# Altium footprint library STM32VET6_PCB.PcbLib: 24 footprints (part 1 of 2)
Each footprint in its own frame and in the unit in brackets; x right, y up, seen from the top. Pads: shape width x height; smd on the part's side, far side on the other; paste and mask are expansions set on the pad; w line width, h text height; cw(c..) or ccw(c..) is an arc to the next point about the centre after c.
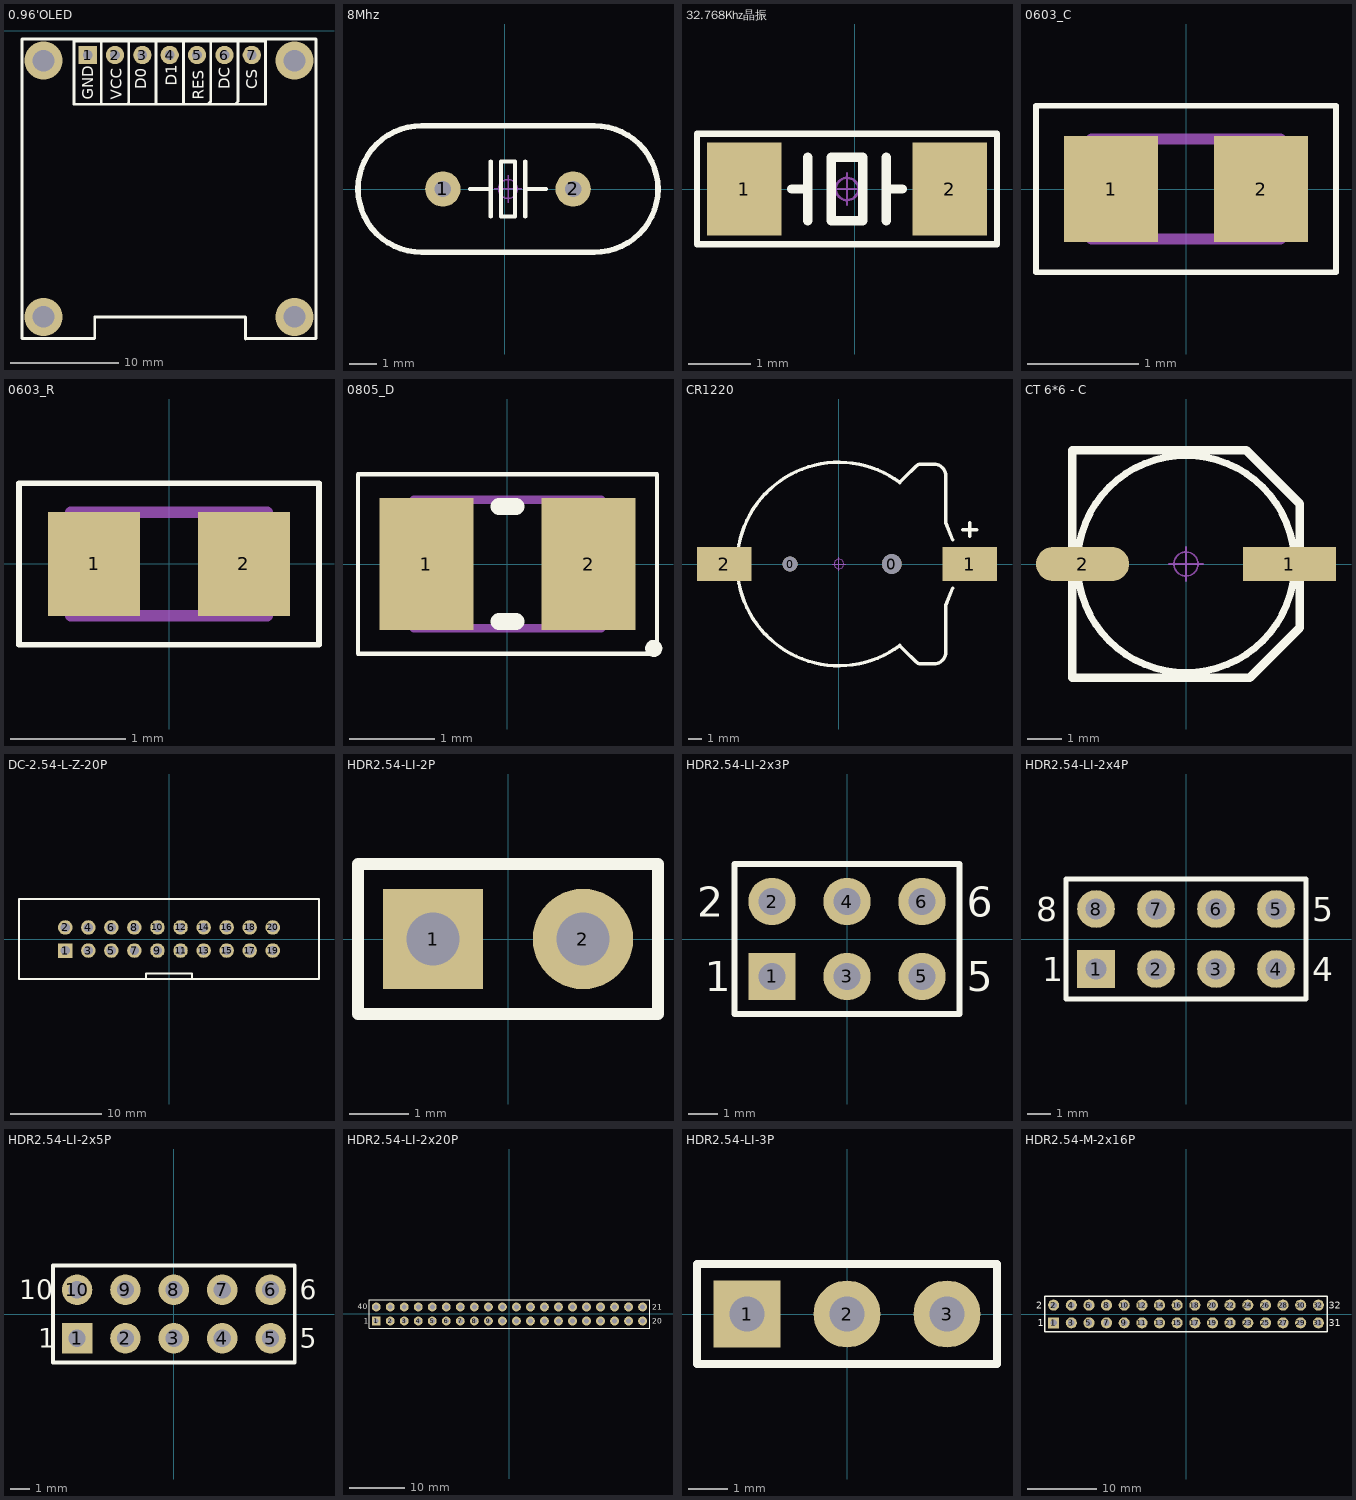
[diagram p0: the footprints below, top view; thin cyan lines are the x and y axes]

## 0.96'OLED [mm] "7脚"
pads (7):
  rect 1.7x1.7 hole 0.9: 1(21.717,-2.262)
  round 1.7 hole 0.9: 2(24.257,-2.262) 3(26.797,-2.262) 4(29.337,-2.262) 5(31.877,-2.262) 6(34.417,-2.262) 7(36.957,-2.262)
via 17.621,-26.575 diameter 3.5 hole 2
via 40.921,-26.575 diameter 3.5 hole 2
via 17.621,-2.775 diameter 3.5 hole 2
via 40.921,-2.775 diameter 3.5 hole 2
Top Overlay:
  lines w0.2: 20.447,-0.992 38.227,-0.992 38.227,-3.532
  lines w0.254: 20.447,-0.992 20.447,-6.834 22.987,-6.834 ; 22.987,-0.992 22.987,-6.834 ; 25.527,-0.992 25.527,-6.707 25.4,-6.834 ; 28.067,-0.992 28.067,-6.707 27.94,-6.834 ; 30.607,-0.992 30.607,-6.707 30.48,-6.834 ; 33.147,-0.992 33.147,-6.58 32.893,-6.834 ; 35.687,-0.992 35.687,-6.58 35.433,-6.834 ; 38.227,-0.992 38.227,-6.834 35.433,-6.834 ; 22.987,-6.834 25.4,-6.834 ; 25.4,-6.834 27.94,-6.834 ; 27.94,-6.834 30.48,-6.834 ; 30.48,-6.834 32.893,-6.834 ; 32.893,-6.834 35.433,-6.834 ; 15.621,-28.575 15.621,-0.775 42.921,-0.775 42.921,-28.575 36.42,-28.575 36.371,-28.624 36.371,-26.575 22.371,-26.575 22.371,-28.556 22.352,-28.575 15.621,-28.575
  text "CS" at 37.465,-5.437 h1
  text "DC" at 34.925,-5.437 h1
  text "D1" at 29.972,-5.104 h1
  text "RES" at 32.512,-6.437 h1
  text "D0" at 27.178,-5.437 h1
  text "VCC" at 24.892,-6.437 h1
  text "GND" at 22.225,-6.437 h1
3D body "HDR2.54-1P_M.STEP": height 8.5, standoff -3, extent 35.687,-3.532 38.227,-0.992
3D body "HDR2.54-1P_M.STEP": height 8.5, standoff -3, extent 33.147,-3.532 35.687,-0.992
3D body "HDR2.54-1P_M.STEP": height 8.5, standoff -3, extent 30.607,-3.532 33.147,-0.992
3D body "HDR2.54-1P_M.STEP": height 8.5, standoff -3, extent 28.067,-3.532 30.607,-0.992
3D body "HDR2.54-1P_M.STEP": height 8.5, standoff -3, extent 25.527,-3.532 28.067,-0.992
3D body "HDR2.54-1P_M.STEP": height 8.5, standoff -3, extent 22.987,-3.532 25.527,-0.992
3D body "HDR2.54-1P_M.STEP": height 8.5, standoff -3, extent 20.447,-3.532 22.987,-0.992
3D body "支撑柱M2X11+4.STEP": height 15, standoff 0, extent 16.021,-28.175 19.221,-24.975
3D body "支撑柱M2X11+4.STEP": height 15, standoff 0, extent 39.321,-28.175 42.521,-24.975
3D body "支撑柱M2X11+4.STEP": height 15, standoff 0, extent 39.321,-4.375 42.521,-1.175
3D body "128x64I2COLED1.STEP": height 13.47, standoff 2.63, extent 15.947,-28.591 42.647,-0.731
3D body "支撑柱M2X11+4.STEP": height 15, standoff 0, extent 16.021,-4.375 19.221,-1.175

## 8Mhz [mm] "HC-49S8MHZ20PF30PPM"
height 3.5
pads (2):
  round 1.3 hole 0.6: 1(-2.273,0) 2(2.527,0)
Top Overlay:
  lines w0.152: -1.27,0 -0.508,0 ; -0.508,-1.016 -0.508,1.016 ; 0.762,-1.016 0.762,1.016 ; 0.762,0 1.524,0 ; -0.127,-1.016 -0.127,1.016 0.381,1.016 0.381,-1.016 -0.127,-1.016
  lines w0.203: -3.048,2.325 ccw(c-3.073,0) -3.046,-2.325 3.302,-2.325 ccw(c3.327,0) 3.3,2.325 -3.048,2.325
Mechanical 15:
  circle w0.05: c0.127,0 r0.35
  lines w0.05: -0.373,0 0.627,0 ; 0.127,-0.5 0.127,0.5
3D body "OSC HC-49U.STEP": height 13.95, standoff -3.45, extent -5.398,-2.325 5.652,2.325

## 32.768Khz晶振 [mm] "3215_2脚贴片"
height 0.8
pads (2):
  rect 1.2x1.5 smd: 1(-1.777,0) 2(1.523,0)
Top Overlay:
  lines w0.1: -2.54,-0.889 2.286,-0.889 2.286,0.889 -2.54,0.889 -2.54,-0.889
  lines w0.152: -1.016,0 -0.762,0 ; -0.762,-0.508 -0.762,0.508 ; 0.508,-0.508 0.508,0.508 ; 0.508,0 0.762,0 ; -0.381,-0.508 -0.381,0.508 0.127,0.508 0.127,-0.508 -0.381,-0.508
Mechanical 15:
  circle w0.04: c-0.127,0 r0.18
  lines w0.04: -0.381,0 0.127,0 ; -0.127,-0.254 -0.127,0.254
3D body "OSC 3215-2.STEP": height 0.61, standoff -0.01, extent -1.727,-0.75 1.473,0.75

## 0603_C [mm] "Chip Capacitor, 2-Leads, Body 1.60x0.80mm, IPC Medium Density"
height 0.9
pads (2):
  rect 0.85x0.95 smd: 1(-0.675,0) 2(0.675,0)
Top Overlay:
  lines w0.05: -1.35,-0.75 -1.35,0.75 1.35,0.75 1.35,-0.75 -1.35,-0.75
Mechanical 13:
  lines w0.1: -0.85,-0.45 -0.85,0.45 0.85,0.45 0.85,-0.45 -0.85,-0.45
3D body "CAPC1608X09N.step": height 0.9, standoff 0, extent -0.85,-0.45 0.85,0.45

## 0603_R [mm] "Chip Resistor, 2-Leads, Body 1.60x0.80mm, IPC Medium Density"
height 0.9
pads (2):
  rect 0.8x0.9 smd: 1(-0.65,0) 2(0.65,0)
Top Overlay:
  lines w0.05: -1.3,-0.7 1.3,-0.7 1.3,0.7 -1.3,0.7 -1.3,-0.7
Mechanical 13:
  lines w0.1: -0.85,-0.45 0.85,-0.45 0.85,0.45 -0.85,0.45 -0.85,-0.45
3D body "RESC1608X09N.step": height 0.9, standoff 0, extent -0.85,-0.45 0.85,0.45

## 0805_D [mm] "Chip Diode, 2-Leads, Body 2.10x1.35mm, IPC Medium Density"
height 0.9
pads (2):
  rect 1.1x1.55 smd: 1(-0.95,0) 2(0.95,0)
Top Overlay:
  circle w0.1: c1.712,-0.987 r0.05
  lines w0.05: -1.75,-1.05 1.75,-1.05 1.75,1.05 -1.75,1.05 -1.75,-1.05
  lines w0.2: -0.1,-0.675 0.1,-0.675 ; -0.1,0.675 0.1,0.675
Mechanical 13:
  lines w0.1: -1.1,-0.75 1.1,-0.75 1.1,0.75 -1.1,0.75 -1.1,-0.75
3D body: height 0.9, standoff 0, extent 0.65,-0.75 1.1,0.75
3D body: height 0.9, standoff 0, extent -1.1,-0.75 -0.65,0.75
3D body: height 0.9, standoff 0, extent -0.65,-0.75 0.65,0.75

## CR1220 [mm] "纽扣电池座"
height 4.1
pads (4):
  round 1.1 hole 1.1: 0(-3.6,0)
  round 1.45 hole 1.45: 0(3.9,0)
  rect 4x2.5 smd: 1(9.652,0) 2(-8.458,0)
Top Overlay:
  lines w0.254: 4.5,-6 cw(c0,0) 4.5,6 ; 4.572,-6.096 4.826,-6.35 5.662,-7.186 ccw(c6.096,-6.753) 6.096,-7.366 7.007,-7.366 ccw(c7.007,-6.499) 7.874,-6.499 7.874,-3.048 8.382,-1.778 ; 4.572,6.096 4.826,6.35 5.662,7.186 cw(c6.096,6.753) 6.096,7.366 7.007,7.366 cw(c7.007,6.499) 7.874,6.499 7.874,3.048 8.382,1.778 ; 9.144,2.54 10.16,2.54 ; 9.652,2.032 9.652,3.048
Mechanical 15:
  circle w0.05: c0,0 r0.35
  lines w0.05: -0.5,0 0.5,0 ; 0,-0.5 0,0.5
3D body "CR1220_A.STEP": height 4.05, standoff -0.85, extent -9.416,-7.45 10.34,7.45

## CT 6*6 - C [mm] "直径6mm，高6mm"
pads (2):
  rect 2.7x1 smd: 1(3,0)
  oval 2.7x1 smd: 2(-3,0)
Top Overlay:
  circle w0.2: c0,0 r3.15
  lines w0.254: -3.3,-3.3 -3.3,3.3 1.75,3.3 3.3,1.75 3.3,-1.85 1.85,-3.3 -3.3,-3.3
Mechanical 15:
  circle w0.05: c0,0 r0.35
  lines w0.05: -0.5,0 0.5,0 ; 0,-0.5 0,0.5
3D body "CT 6X6-C.STEP": height 6, standoff -0.01, extent -3.5,-3.15 3.5,3.15

## DC-2.54-L-Z-20P [mm] "立式直插简牛插座，间距2.54（蒜米工坊）"
pads (20):
  rect 1.6x1.6 hole 1.02: 1(-11.43,-1.27)
  round 1.6 hole 1.02: 2(-11.43,1.27) 3(-8.89,-1.27) 4(-8.89,1.27) 5(-6.35,-1.27) 6(-6.35,1.27) 7(-3.81,-1.27) 8(-3.81,1.27) 9(-1.27,-1.27) 10(-1.27,1.27) 11(1.27,-1.27) 12(1.27,1.27) 13(3.81,-1.27) 14(3.81,1.27) 15(6.35,-1.27) 16(6.35,1.27) 17(8.89,-1.27) 18(8.89,1.27) 19(11.43,-1.27) 20(11.43,1.27)
Top Overlay:
  lines w0.254: -2.54,-4.4 -2.54,-3.81 2.54,-3.81 2.54,-4.4 ; -16.525,-4.4 -16.525,4.4 16.525,4.4 16.525,-4.4 -16.525,-4.4
3D body "2.54牛角插座2×10P.STEP": height 8.8, standoff -3.5, extent -16.525,-4.4 16.525,4.7

## HDR2.54-LI-2P [mm] "排针，2脚"
pads (2):
  rect 1.7x1.7 hole 0.9: 1(-1.27,0)
  round 1.7 hole 0.9: 2(1.27,0)
Top Overlay:
  lines w0.2: -2.54,-1.27 2.54,-1.27 2.54,1.27 -2.54,1.27 -2.54,-1.27
3D body "HDR2.54-1P.STEP": height 8.5, standoff -3, extent -2.54,-1.27 0,1.27
3D body "HDR2.54-1P.STEP": height 8.5, standoff -3, extent 0,-1.27 2.54,1.27

## HDR2.54-LI-2x3P [mm] "双排排针，3x2脚"
pads (6):
  rect 1.6x1.6 hole 0.9: 1(-2.54,-1.27)
  round 1.6 hole 0.9: 2(-2.54,1.27) 3(0,-1.27) 4(0,1.27) 5(2.54,-1.27) 6(2.54,1.27)
Top Overlay:
  lines w0.2: -1.058,-2.54 3.81,-2.54 ; 3.81,-2.54 -3.81,-2.54 -3.81,2.54 3.81,2.54 3.81,-2.54
  text "1" at -4.826,-1.778 h1.02
  text "2" at -5.08,0.762 h1.02
  text "5" at 4.064,-1.778 h1.02
  text "6" at 4.064,0.762 h1.02
3D body "HDR2.54-1x2P.STEP": height 8.5, standoff -3, extent -1.27,-2.54 1.27,2.54
3D body "HDR2.54-1x2P.STEP": height 8.5, standoff -3, extent -3.81,-2.54 -1.27,2.54
3D body "HDR2.54-1x2P.STEP": height 8.5, standoff -3, extent 1.27,-2.54 3.81,2.54

## HDR2.54-LI-2x4P [mm] "双排排针，4x2脚"
pads (8):
  rect 1.6x1.6 hole 0.9: 1(-3.81,-1.27)
  round 1.6 hole 0.9: 2(-1.27,-1.27) 3(1.27,-1.27) 4(3.81,-1.27) 5(3.81,1.27) 6(1.27,1.27) 7(-1.27,1.27) 8(-3.81,1.27)
Top Overlay:
  lines w0.2: -2.328,-2.54 5.08,-2.54 5.08,2.54 -5.08,2.54 -5.08,-2.54 2.54,-2.54
  text "5" at 5.334,0.762 h1.02
  text "1" at -6.096,-1.778 h1.02
  text "8" at -6.35,0.762 h1.02
  text "4" at 5.334,-1.778 h1.02
3D body "HDR2.54-1x2P.STEP": height 8.5, standoff -3, extent -2.54,-2.54 0,2.54
3D body "HDR2.54-1x2P.STEP": height 8.5, standoff -3, extent -5.08,-2.54 -2.54,2.54
3D body "HDR2.54-1x2P.STEP": height 8.5, standoff -3, extent 2.54,-2.54 5.08,2.54
3D body "HDR2.54-1x2P.STEP": height 8.5, standoff -3, extent 0,-2.54 2.54,2.54

## HDR2.54-LI-2x5P [mm] "双排排针，5x2脚"
pads (10):
  rect 1.6x1.6 hole 0.9: 1(-5.08,-1.27)
  round 1.6 hole 0.9: 2(-2.54,-1.27) 3(0,-1.27) 4(2.54,-1.27) 5(5.08,-1.27) 6(5.08,1.27) 7(2.54,1.27) 8(0,1.27) 9(-2.54,1.27) 10(-5.08,1.27)
Top Overlay:
  lines w0.2: -6.35,-2.54 6.35,-2.54 6.35,2.54 -6.35,2.54 -6.35,-2.54
  text "6" at 6.604,0.762 h1.02
  text "5" at 6.604,-1.778 h1.02
  text "1" at -7.112,-1.778 h1.02
  text "10" at -8.128,0.762 h1.02
3D body "HDR2.54-1x2P.STEP": height 8.5, standoff -3, extent 3.81,-2.54 6.35,2.54
3D body "HDR2.54-1x2P.STEP": height 8.5, standoff -3, extent -3.81,-2.54 -1.27,2.54
3D body "HDR2.54-1x2P.STEP": height 8.5, standoff -3, extent -6.35,-2.54 -3.81,2.54
3D body "HDR2.54-1x2P.STEP": height 8.5, standoff -3, extent 1.27,-2.54 3.81,2.54
3D body "HDR2.54-1x2P.STEP": height 8.5, standoff -3, extent -1.27,-2.54 1.27,2.54

## HDR2.54-LI-2x20P [mm] "双排排针，20x2脚"
pads (40):
  rect 1.6x1.6 hole 0.9: 1(-24.13,-1.27)
  round 1.6 hole 0.9: 2(-21.59,-1.27) 3(-19.05,-1.27) 4(-16.51,-1.27) 5(-13.97,-1.27) 6(-11.43,-1.27) 7(-8.89,-1.27) 8(-6.35,-1.27) 9(-3.81,-1.27) 10(-1.27,-1.27) 11(1.27,-1.27) 12(3.81,-1.27) 13(6.35,-1.27) 14(8.89,-1.27) 15(11.43,-1.27) 16(13.97,-1.27) 17(16.51,-1.27) 18(19.05,-1.27) 19(21.59,-1.27) 20(24.13,-1.27) 21(24.13,1.27) 22(21.59,1.27) 23(19.05,1.27) 24(16.51,1.27) 25(13.97,1.27) 26(11.43,1.27) 27(8.89,1.27) 28(6.35,1.27) 29(3.81,1.27) 30(1.27,1.27) 31(-1.27,1.27) 32(-3.81,1.27) 33(-6.35,1.27) 34(-8.89,1.27) 35(-11.43,1.27) 36(-13.97,1.27) 37(-16.51,1.27) 38(-19.05,1.27) 39(-21.59,1.27) 40(-24.13,1.27)
Top Overlay:
  lines w0.2: -25.4,-2.54 25.4,-2.54 25.4,2.54 -25.4,2.54 -25.4,-2.54
  text "1" at -26.416,-1.778 h1.02
  text "40" at -27.432,0.889 h1.02
  text "21" at 25.908,0.762 h1.02
  text "20" at 25.908,-1.778 h1.02
3D body "HDR2.54-1x2P.STEP": height 8.5, standoff -3, extent 17.78,-2.54 20.32,2.54
3D body "HDR2.54-1x2P.STEP": height 8.5, standoff -3, extent 20.32,-2.54 22.86,2.54
3D body "HDR2.54-1x2P.STEP": height 8.5, standoff -3, extent 12.7,-2.54 15.24,2.54
3D body "HDR2.54-1x2P.STEP": height 8.5, standoff -3, extent 15.24,-2.54 17.78,2.54
3D body "HDR2.54-1x2P.STEP": height 8.5, standoff -3, extent 22.86,-2.54 25.4,2.54
3D body "HDR2.54-1x2P.STEP": height 8.5, standoff -3, extent 5.08,-2.54 7.62,2.54
3D body "HDR2.54-1x2P.STEP": height 8.5, standoff -3, extent 7.62,-2.54 10.16,2.54
3D body "HDR2.54-1x2P.STEP": height 8.5, standoff -3, extent 0,-2.54 2.54,2.54
3D body "HDR2.54-1x2P.STEP": height 8.5, standoff -3, extent 2.54,-2.54 5.08,2.54
3D body "HDR2.54-1x2P.STEP": height 8.5, standoff -3, extent 10.16,-2.54 12.7,2.54
3D body "HDR2.54-1x2P.STEP": height 8.5, standoff -3, extent -7.62,-2.54 -5.08,2.54
3D body "HDR2.54-1x2P.STEP": height 8.5, standoff -3, extent -5.08,-2.54 -2.54,2.54
3D body "HDR2.54-1x2P.STEP": height 8.5, standoff -3, extent -12.7,-2.54 -10.16,2.54
3D body "HDR2.54-1x2P.STEP": height 8.5, standoff -3, extent -10.16,-2.54 -7.62,2.54
3D body "HDR2.54-1x2P.STEP": height 8.5, standoff -3, extent -2.54,-2.54 0,2.54
3D body "HDR2.54-1x2P.STEP": height 8.5, standoff -3, extent -20.32,-2.54 -17.78,2.54
3D body "HDR2.54-1x2P.STEP": height 8.5, standoff -3, extent -17.78,-2.54 -15.24,2.54
3D body "HDR2.54-1x2P.STEP": height 8.5, standoff -3, extent -25.4,-2.54 -22.86,2.54
3D body "HDR2.54-1x2P.STEP": height 8.5, standoff -3, extent -22.86,-2.54 -20.32,2.54
3D body "HDR2.54-1x2P.STEP": height 8.5, standoff -3, extent -15.24,-2.54 -12.7,2.54

## HDR2.54-LI-3P [mm] "排针，3脚"
pads (3):
  rect 1.7x1.7 hole 0.9: 1(-2.54,0)
  round 1.7 hole 0.9: 2(0,0) 3(2.54,0)
Top Overlay:
  lines w0.2: -3.81,-1.27 3.81,-1.27 3.81,1.27 -3.81,1.27 -3.81,-1.27
3D body "HDR2.54-1P.STEP": height 8.5, standoff -3, extent -3.81,-1.27 -1.27,1.27
3D body "HDR2.54-1P.STEP": height 8.5, standoff -3, extent -1.27,-1.27 1.27,1.27
3D body "HDR2.54-1P.STEP": height 8.5, standoff -3, extent 1.27,-1.27 3.81,1.27

## HDR2.54-M-2x16P [mm] "双排排座，16x2脚"
pads (32):
  rect 1.6x1.6 hole 0.9: 1(-19.05,-1.27)
  round 1.6 hole 0.9: 2(-19.05,1.27) 3(-16.51,-1.27) 4(-16.51,1.27) 5(-13.97,-1.27) 6(-13.97,1.27) 7(-11.43,-1.27) 8(-11.43,1.27) 9(-8.89,-1.27) 10(-8.89,1.27) 11(-6.35,-1.27) 12(-6.35,1.27) 13(-3.81,-1.27) 14(-3.81,1.27) 15(-1.27,-1.27) 16(-1.27,1.27) 17(1.27,-1.27) 18(1.27,1.27) 19(3.81,-1.27) 20(3.81,1.27) 21(6.35,-1.27) 22(6.35,1.27) 23(8.89,-1.27) 24(8.89,1.27) 25(11.43,-1.27) 26(11.43,1.27) 27(13.97,-1.27) 28(13.97,1.27) 29(16.51,-1.27) 30(16.51,1.27) 31(19.05,-1.27) 32(19.05,1.27)
Top Overlay:
  lines w0.2: -20.32,-2.54 -20.32,2.54 20.32,2.54 20.32,-2.54 -20.32,-2.54
  text "32" at 20.574,0.762 h1.02
  text "31" at 20.574,-1.778 h1.02
  text "1" at -21.336,-1.778 h1.02
  text "2" at -21.59,0.762 h1.02
3D body "HDR2.54-1P_M.STEP": height 8.5, standoff -3, extent 17.78,-2.54 20.32,0
3D body "HDR2.54-1P_M.STEP": height 8.5, standoff -3, extent 17.78,0 20.32,2.54
3D body "HDR2.54-1P_M.STEP": height 8.5, standoff -3, extent 15.24,-2.54 17.78,0
3D body "HDR2.54-1P_M.STEP": height 8.5, standoff -3, extent 15.24,0 17.78,2.54
3D body "HDR2.54-1P_M.STEP": height 8.5, standoff -3, extent 12.7,-2.54 15.24,0
3D body "HDR2.54-1P_M.STEP": height 8.5, standoff -3, extent 12.7,0 15.24,2.54
3D body "HDR2.54-1P_M.STEP": height 8.5, standoff -3, extent 10.16,-2.54 12.7,0
3D body "HDR2.54-1P_M.STEP": height 8.5, standoff -3, extent 10.16,0 12.7,2.54
3D body "HDR2.54-1P_M.STEP": height 8.5, standoff -3, extent 7.62,-2.54 10.16,0
3D body "HDR2.54-1P_M.STEP": height 8.5, standoff -3, extent 7.62,0 10.16,2.54
3D body "HDR2.54-1P_M.STEP": height 8.5, standoff -3, extent 5.08,-2.54 7.62,0
3D body "HDR2.54-1P_M.STEP": height 8.5, standoff -3, extent 5.08,0 7.62,2.54
3D body "HDR2.54-1P_M.STEP": height 8.5, standoff -3, extent 2.54,-2.54 5.08,0
3D body "HDR2.54-1P_M.STEP": height 8.5, standoff -3, extent 2.54,0 5.08,2.54
3D body "HDR2.54-1P_M.STEP": height 8.5, standoff -3, extent 0,-2.54 2.54,0
3D body "HDR2.54-1P_M.STEP": height 8.5, standoff -3, extent 0,0 2.54,2.54
3D body "HDR2.54-1P_M.STEP": height 8.5, standoff -3, extent -2.54,-2.54 0,0
3D body "HDR2.54-1P_M.STEP": height 8.5, standoff -3, extent -2.54,0 0,2.54
3D body "HDR2.54-1P_M.STEP": height 8.5, standoff -3, extent -5.08,-2.54 -2.54,0
3D body "HDR2.54-1P_M.STEP": height 8.5, standoff -3, extent -5.08,0 -2.54,2.54
3D body "HDR2.54-1P_M.STEP": height 8.5, standoff -3, extent -7.62,-2.54 -5.08,0
3D body "HDR2.54-1P_M.STEP": height 8.5, standoff -3, extent -7.62,0 -5.08,2.54
3D body "HDR2.54-1P_M.STEP": height 8.5, standoff -3, extent -10.16,-2.54 -7.62,0
3D body "HDR2.54-1P_M.STEP": height 8.5, standoff -3, extent -10.16,0 -7.62,2.54
3D body "HDR2.54-1P_M.STEP": height 8.5, standoff -3, extent -12.7,-2.54 -10.16,0
3D body "HDR2.54-1P_M.STEP": height 8.5, standoff -3, extent -12.7,0 -10.16,2.54
3D body "HDR2.54-1P_M.STEP": height 8.5, standoff -3, extent -15.24,-2.54 -12.7,0
3D body "HDR2.54-1P_M.STEP": height 8.5, standoff -3, extent -15.24,0 -12.7,2.54
3D body "HDR2.54-1P_M.STEP": height 8.5, standoff -3, extent -17.78,-2.54 -15.24,0
3D body "HDR2.54-1P_M.STEP": height 8.5, standoff -3, extent -17.78,0 -15.24,2.54
3D body "HDR2.54-1P_M.STEP": height 8.5, standoff -3, extent -20.32,0 -17.78,2.54
3D body "HDR2.54-1P_M.STEP": height 8.5, standoff -3, extent -20.32,-2.54 -17.78,0